# Altium schematic symbol library INMP441.SchLib: 1 symbol
Pins are listed as number, name and electrical type; pins without a type are passive.

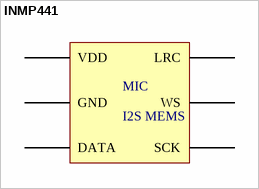
[diagram p0: symbol INMP441]

## INMP441
designator MIC, comment I2S MEMS
pins: DATA, GND (power), LRC, SCK, VDD (power), WS